# Altium footprint library Flomio BLE-NFC.PcbLib: 24 footprints (part 2 of 2)
Each footprint in its own frame and in the unit in brackets; x right, y up, seen from the top. Pads: shape width x height; smd on the part's side, far side on the other; paste and mask are expansions set on the pad; w line width, h text height; cw(c..) or ccw(c..) is an arc to the next point about the centre after c.
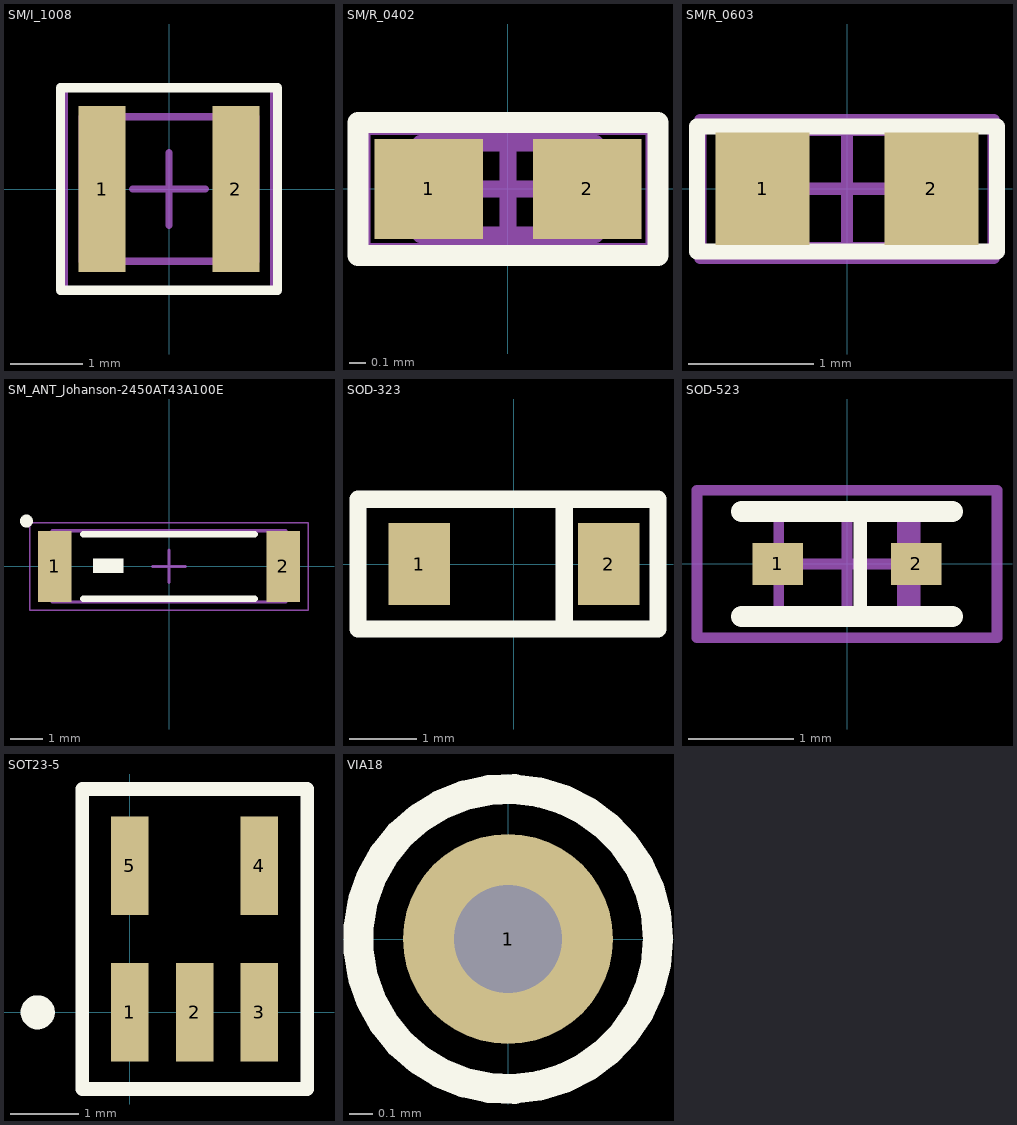
[diagram p1: the footprints below, top view; thin cyan lines are the x and y axes]

## SM/I_1008 [mm] "1008 Inductor"
height 1.6
pads (2):
  rect 0.65x2.3 smd: 1(-0.925,0) 2(0.925,0)
Top Overlay:
  lines w0.127: -1.5,-1.4 1.5,-1.4 1.5,1.4 -1.5,1.4 -1.5,-1.4
Mechanical 13:
  lines w0.1: -1.2,-1 1.2,-1 1.2,1 -1.2,1 -1.2,-1
Mechanical 15:
  lines w0.1: -0.5,0 0.5,0 ; 0,-0.5 0,0.5 ; -1.45,-1.4 1.45,-1.4 1.45,1.4 -1.45,1.4 -1.45,-1.4
3D body: height 1.6, standoff 0, extent -1.199,-0.999 1.199,0.999

## SM/R_0402 [mm] "0402 Resistor"
height 0.4
pads (2):
  rect 0.65x0.6 smd: 1(-0.475,0) 2(0.475,0)
Top Overlay:
  lines w0.127: -0.9,-0.4 0.9,-0.4 0.9,0.4 -0.9,0.4 -0.9,-0.4
Mechanical 13:
  lines w0.1: -0.525,-0.275 -0.525,0.275 0.525,0.275 0.525,-0.275 -0.525,-0.275
Mechanical 15:
  lines w0.1: -0.275,0 0.275,0 ; 0,-0.275 0,0.275 ; -0.875,-0.375 -0.875,0.375 0.875,0.375 0.875,-0.375 -0.875,-0.375
3D body: height 0.4, standoff 0, extent -0.525,-0.275 0.525,0.275

## SM/R_0603 [mm] "0603 Resistor"
height 0.5
pads (2):
  rect 0.75x0.9 smd: 1(-0.675,0) 2(0.675,0)
Top Overlay:
  lines w0.127: -1.2,-0.5 -1.2,0.5 1.2,0.5 1.2,-0.5 -1.2,-0.5
Mechanical 13:
  lines w0.1: -0.825,-0.475 -0.825,0.475 0.825,0.475 0.825,-0.475 -0.825,-0.475
Mechanical 15:
  lines w0.1: -0.475,0 0.475,0 ; 0,-0.475 0,0.475 ; -1.175,-0.55 -1.175,0.55 1.175,0.55 1.175,-0.55 -1.175,-0.55
3D body: height 0.5, standoff 0, extent -0.825,-0.475 0.825,0.475

## SM_ANT_Johanson-2450AT43A100E [mm] "Chip Antenna, 2-Leads, Body 7.00x2.00mm, IPC Medium Density"
height 1.3
pads (2):
  rect 1.04x2.2 smd: 1(-3.53,0) 2(3.53,0)
Top Overlay:
  circle w0.2: c-4.4,1.4 r0.1
  rectangle: -2.35,-0.2 -1.4,0.25
  lines w0.2: -2.65,-1 2.65,-1 ; -2.65,1 2.65,1
Mechanical 6:
  lines w0.1: -3.6,-1.1 3.6,-1.1 3.6,1.1 -3.6,1.1 -3.6,-1.1
Mechanical 15:
  lines w0.05: -4.3,-1.35 4.3,-1.35 4.3,1.35 -4.3,1.35 -4.3,-1.35
  lines w0.1: -0.5,0 0.5,0 ; 0,-0.5 0,0.5
3D body: height 1.3, standoff 0, extent 3.1,-1.1 3.6,1.1
3D body: height 1.3, standoff 0, extent -3.6,-1.1 -3.1,1.1
3D body: height 1.3, standoff 0, extent -3.1,-1.1 3.1,1.1

## SOD-323 [mil]
pads (2):
  rect 36x48 smd paste+0 mask+2: 1(-55.5,0) 2(55.5,0)
Top Overlay:
  lines w10: 29.5,-38 29.5,38 ; -91.5,-38 -91.5,38 84.5,38 84.5,-38 -91.5,-38
3D body: height 43.5, standoff 0, extent -51.18,-26.58 51.18,26.58

## SOD-523 [mm]
height 0.7
pads (2):
  rect 0.48x0.4 smd: 1(-0.66,0) 2(0.66,0)
Top Overlay:
  lines w0.127: 0.127,-0.5 0.127,0.5
  lines w0.2: -1,-0.5 1,-0.5 ; -1,0.5 1,0.5
Mechanical 13:
  rectangle: 0.475,-0.45 0.65,0.45
  lines w0.1: -0.65,-0.45 0.65,-0.45 0.65,0.45 -0.65,0.45 -0.65,-0.45
Mechanical 15:
  lines w0.1: -0.45,0 0.45,0 ; 0,-0.45 0,0.45 ; -1.425,-0.7 1.425,-0.7 1.425,0.7 -1.425,0.7 -1.425,-0.7
3D body: height 0.7, standoff 0, extent -0.65,-0.45 0.65,0.45

## SOT23-5 [mm]
pads (5):
  rect 0.55x1.45 smd: 1(0,0) 2(0.95,0) 3(1.9,0) 4(1.9,2.15) 5(0,2.15)
Top Overlay:
  circle w0.25: c-1.35,0 r0.125
  lines w0.2: -0.7,-1.125 2.6,-1.125 2.6,3.275 -0.7,3.275 -0.7,-1.125
3D body: height 1.12, standoff 0.02, extent -0.535,-0.138 2.465,2.362

## VIA18 [mil]
pads (1):
  round 35 hole 18: 1(0,0)
Top Overlay:
  circle w5: c0,0 r25
Bottom Overlay:
  circle w5: c0,0 r25